# Altium footprint library Spring Compression Contact 2.5 mm.PcbLib: 1 footprints
Each footprint in its own frame and in the unit in brackets; x right, y up, seen from the top. Pads: shape width x height; smd on the part's side, far side on the other; paste and mask are expansions set on the pad; w line width, h text height; cw(c..) or ccw(c..) is an arc to the next point about the centre after c.
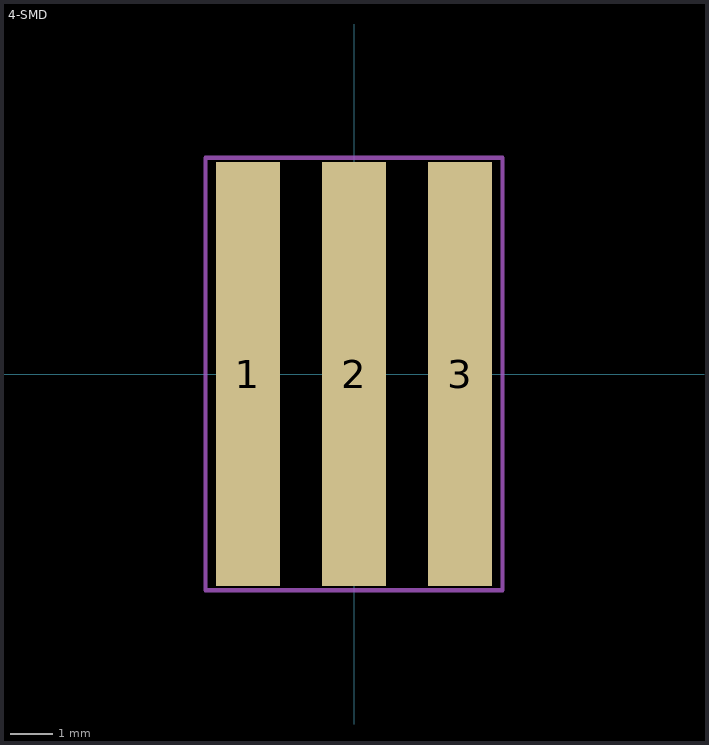
[diagram p0: the footprint, top view; thin cyan lines are the x and y axes]

## 4-SMD [mm]
height 0.55
pads (3):
  rect 1.5x10 smd: 1(-2.5,0) 2(0,0) 3(2.5,0)
Top Assembly:
  lines w0.1: -3.5,-5.1 -3.5,5.1 3.5,5.1 3.5,0.8 3.5,-0.6 3.5,-5.1 -3.5,-5.1
  text "'.Designator'" at -0.975,-0.35 h0.7